# EAGLE library part OPTOISOLATOR-CPC5002 (library tinyups)
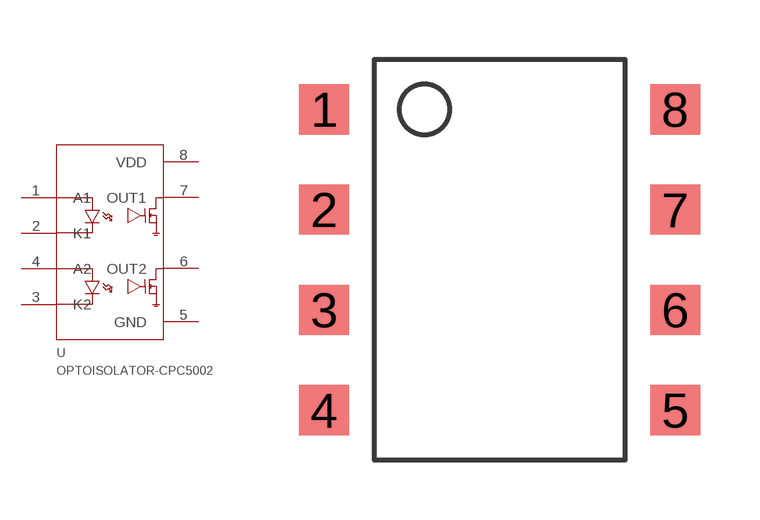
[diagram p2: symbol with the pads of OPTOISOLATOR-DIPSMD-8; footprint OPTOISOLATOR-DIPSMD-8]

Designator prefix U

## OPTOISOLATOR-CPC5002  [OPTOISOLATOR-DIPSMD-8]
1  A1
2  K1
3  K2
4  A2
5  GND
6  OUT2  oc
7  OUT1  oc
8  VDD

## Footprint OPTOISOLATOR-DIPSMD-8 (pad centres in mm)
smd 1.27 x 1.27: 1 -4.445,3.81; 2 -4.445,1.27; 3 -4.445,-1.27; 4 -4.445,-3.81; 5 4.445,-3.81; 6 4.445,-1.27; 7 4.445,1.27; 8 4.445,3.81